# Altium footprint library C315.PcbLib: 1 footprints
Each footprint in its own frame and in the unit in brackets; x right, y up, seen from the top. Pads: shape width x height; smd on the part's side, far side on the other; paste and mask are expansions set on the pad; w line width, h text height; cw(c..) or ccw(c..) is an arc to the next point about the centre after c.
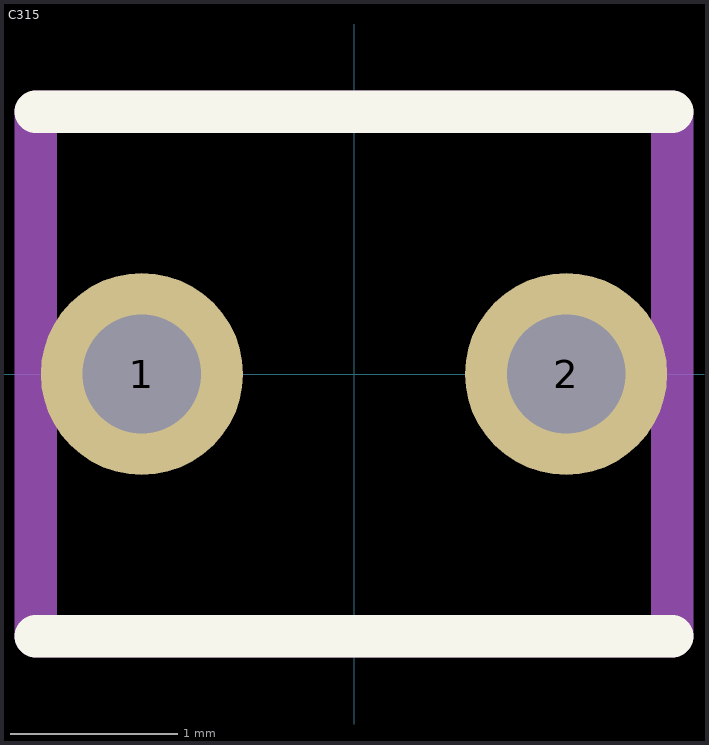
[diagram p0: the footprint, top view; thin cyan lines are the x and y axes]

## C315 [mm]
pads (2):
  round 1.21 hole 0.71: 1(-1.27,0) 2(1.27,0)
Top Overlay:
  lines w0.254: -1.905,-1.57 1.905,-1.57 ; -1.905,1.57 1.905,1.57
Mechanical 15:
  lines w0.254: -1.905,-1.57 1.905,-1.57 1.905,1.57 -1.905,1.57 -1.905,-1.57
3D body "C315C220J2G5TA.stp": height 5.8, standoff -4.65, extent -10,-3.376 10,3.376